# Altium footprint library JDY_pcb_lib.PcbLib: 10 footprints
Each footprint in its own frame and in the unit in brackets; x right, y up, seen from the top. Pads: shape width x height; smd on the part's side, far side on the other; paste and mask are expansions set on the pad; w line width, h text height; cw(c..) or ccw(c..) is an arc to the next point about the centre after c.
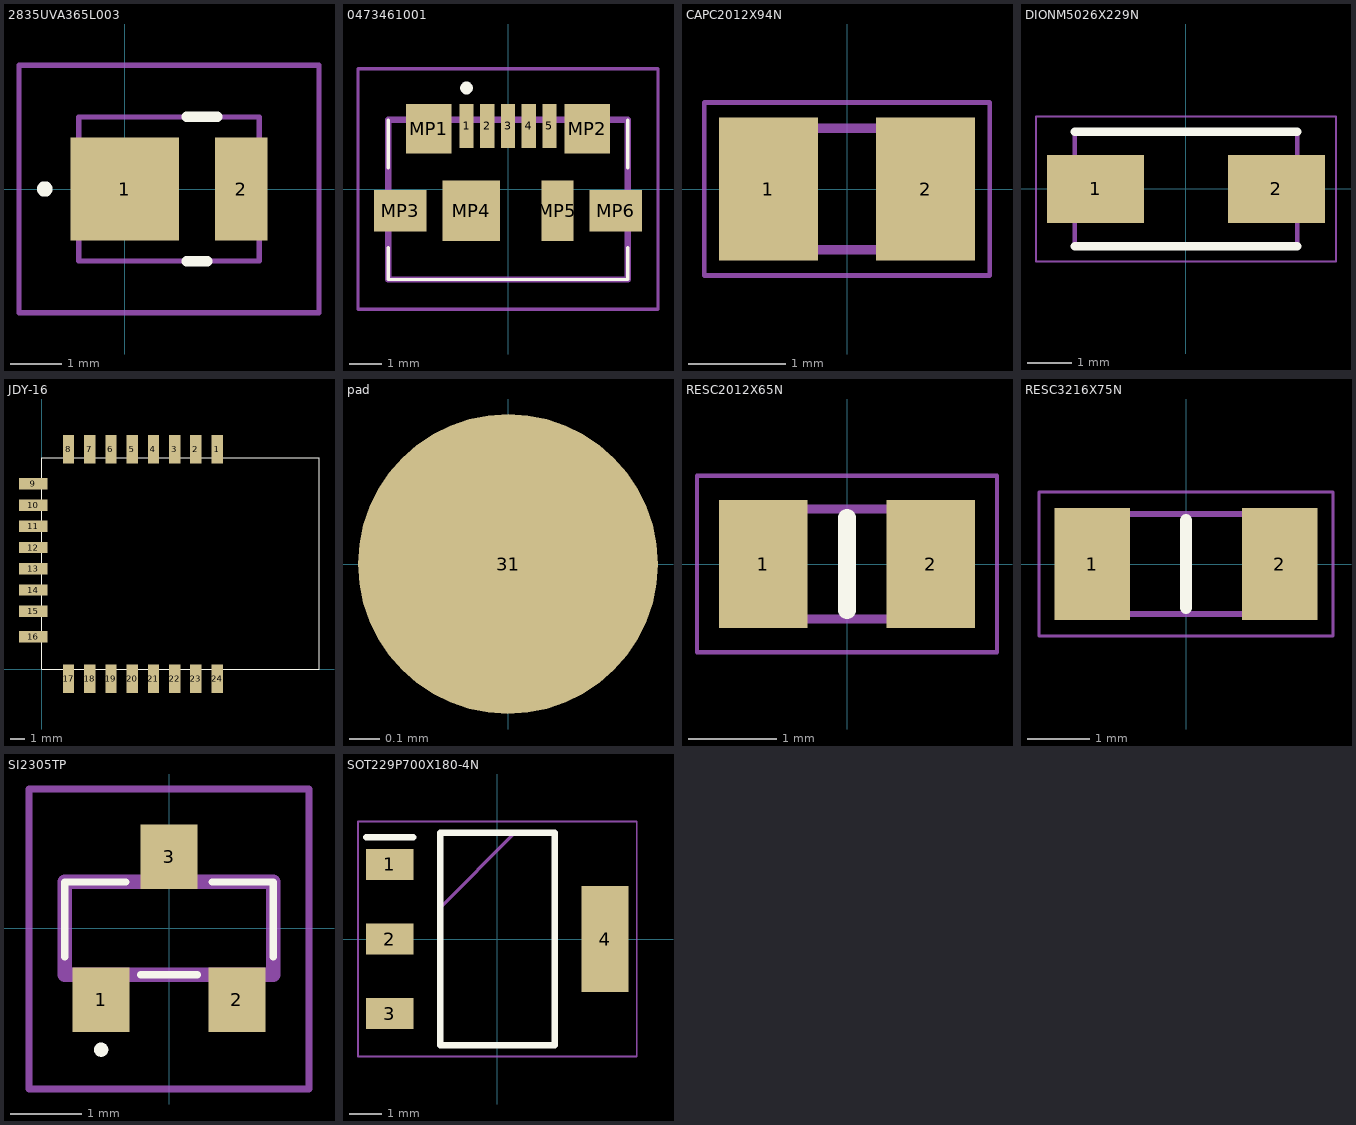
[diagram p0: the footprints below, top view; thin cyan lines are the x and y axes]

## 2835UVA365L003 [mm]
pads (2):
  rect 2.1x2 smd: 1(0,0)
  rect 1.02x2 smd: 2(2.26,0)
Top Overlay:
  lines w0.2: -1.6,0 ccw(c-1.55,0) -1.5,0 ; -1.6,0 cw(c-1.55,0) -1.5,0 ; -1.6,0 ccw(c-1.55,0) -1.5,0 ; 1.2,-1.4 1.6,-1.4 1.2,-1.4 ; 1.2,1.4 1.8,1.4 1.2,1.4
Mechanical 13:
  lines w0.1: -0.89,-1.4 2.61,-1.4 2.61,1.4 -0.89,1.4 -0.89,-1.4
Mechanical 15:
  lines w0.1: -2.05,-2.4 3.77,-2.4 3.77,2.4 -2.05,2.4 -2.05,-2.4
3D body "2835UVA365L-003.stp": height 1.85, standoff 0, extent -0.89,-1.4 2.61,1.4

## 0473461001 [mm]
pads (11):
  rect 0.45x1.38 smd: 1(-1.3,1.975) 2(-0.65,1.975) 3(0,1.975) 4(0.65,1.975) 5(1.3,1.975)
  rect 1.425x1.55 smd: MP1(-2.487,1.89) MP2(2.487,1.89)
  rect 1.65x1.3 smd: MP3(-3.375,-0.685) MP6(3.375,-0.685)
  rect 1.8x1.9 smd: MP4(-1.15,-0.685)
  rect 1x1.9 smd: MP5(1.55,-0.685)
Top Overlay:
  lines w0.1: -3.75,-1.835 -3.75,-2.835 3.75,-2.835 3.75,-1.835 ; -3.75,0.665 -3.75,2.165 ; 3.75,0.665 3.75,2.165
  lines w0.2: -1.4,3.165 cw(c-1.3,3.165) -1.2,3.165 cw(c-1.3,3.165) -1.4,3.165
Mechanical 13:
  lines w0.2: -3.75,-2.835 -3.75,2.165 3.75,2.165 3.75,-2.835 -3.75,-2.835
Mechanical 15:
  lines w0.1: -4.7,-3.765 -4.7,3.765 4.7,3.765 4.7,-3.765 -4.7,-3.765
3D body "0473461001.stp": height 2.72, standoff 0.01, extent -3.9,-2.5 3.9,2.5

## CAPC2012X94N [mm]
pads (2):
  rect 1.02x1.47 smd: 1(-0.81,0) 2(0.81,0)
Mechanical 13:
  lines w0.1: -1.005,-0.625 -1.005,0.625 1.005,0.625 1.005,-0.625 -1.005,-0.625
Mechanical 15:
  lines w0.05: -1.47,-0.89 -1.47,0.89 1.47,0.89 1.47,-0.89 -1.47,-0.89
3D body "08055A150JAT2A.stp": height 0.94, standoff 0, extent -1.005,-0.625 1.005,0.625

## DIONM5026X229N [mm]
pads (2):
  rect 2.2x1.55 smd: 1(-2.05,0) 2(2.05,0)
Top Overlay:
  lines w0.2: -2.52,-1.298 2.52,-1.298 ; -2.52,1.298 2.52,1.298
Mechanical 13:
  lines w0.1: -2.52,-1.298 2.52,-1.298 2.52,1.298 -2.52,1.298 -2.52,-1.298
Mechanical 15:
  lines w0.05: -3.4,-1.645 3.4,-1.645 3.4,1.645 -3.4,1.645 -3.4,-1.645
3D body "SMAJ400CA.stp": height 2.29, standoff 0, extent -2.52,-1.298 2.52,1.298

## JDY-16 [mm] "JDY16"
pads (24):
  rect 0.8x2 smd: 1(12.4,15.54) 2(10.9,15.54) 3(9.4,15.54) 4(7.9,15.54) 5(6.4,15.54) 6(4.9,15.54) 7(3.4,15.54) 8(1.9,15.54) 17(1.9,-0.66) 18(3.4,-0.66) 19(4.9,-0.66) 20(6.4,-0.66) 21(7.9,-0.66) 22(9.4,-0.66) 23(10.9,-0.66) 24(12.4,-0.66)
  rect 2x0.8 smd: 9(-0.6,13.1) 10(-0.6,11.6) 11(-0.6,10.1) 12(-0.6,8.6) 13(-0.6,7.1) 14(-0.6,5.6) 15(-0.6,4.1) 16(-0.6,2.3)
Top Overlay:
  lines w0.01: 0,0 19.6,0 19.6,14.94 0,14.94 0,0
3D body "JDY-08.stp": height 2.08, standoff 0, extent 0,-0.071 19.888,14.94

## pad [mm]
pads (1):
  round 1 smd: 31(0,0)

## RESC2012X65N [mm]
pads (2):
  rect 1x1.45 smd: 1(-0.95,0) 2(0.95,0)
Top Overlay:
  lines w0.2: 0,-0.525 0,0.525
Mechanical 13:
  lines w0.1: -1,-0.625 -1,0.625 1,0.625 1,-0.625 -1,-0.625
Mechanical 15:
  lines w0.05: -1.7,-1 -1.7,1 1.7,1 1.7,-1 -1.7,-1
3D body "CPF0805B100RE1.stp": height 0.65, standoff 0, extent -1,-0.625 1,0.625

## RESC3216X75N [mm]
pads (2):
  rect 1.2x1.8 smd: 1(-1.5,0) 2(1.5,0)
Top Overlay:
  lines w0.2: 0,-0.7 0,0.7
Mechanical 13:
  lines w0.1: -1.6,-0.8 -1.6,0.8 1.6,0.8 1.6,-0.8 -1.6,-0.8
Mechanical 15:
  lines w0.05: -2.35,-1.15 -2.35,1.15 2.35,1.15 2.35,-1.15 -2.35,-1.15
3D body "CR1206-F_-2R70ELF.stp": height 0.75, standoff 0, extent -1.6,-0.8 1.6,0.8

## SI2305TP [mm]
pads (3):
  rect 0.8x0.9 smd: 1(-0.95,-1) 2(0.95,-1) 3(0,1)
Top Overlay:
  lines w0.1: -1.46,-0.4 -1.46,0.65 -0.6,0.65 ; -0.4,-0.65 0.4,-0.65 ; 0.6,0.65 1.46,0.65 1.46,-0.4 ; -1,-1.7 ccw(c-0.95,-1.7) -0.9,-1.7 ccw(c-0.95,-1.7) -1,-1.7
Mechanical 13:
  lines w0.2: -1.46,-0.65 -1.46,0.65 1.46,0.65 1.46,-0.65 -1.46,-0.65
Mechanical 15:
  lines w0.1: -1.96,-2.25 -1.96,1.95 1.96,1.95 1.96,-2.25 -1.96,-2.25
3D body "BC817-40-TP.stp": height 0.9, standoff 0, extent -1.4,-1.05 1.4,1.05

## SOT229P700X180-4N [mm]
pads (4):
  rect 1.45x0.95 smd: 1(-3.3,2.29) 2(-3.3,0) 3(-3.3,-2.29)
  rect 1.45x3.25 smd: 4(3.3,0)
Top Overlay:
  lines w0.2: -4.025,3.115 -2.575,3.115 ; -1.752,-3.252 -1.752,3.252 1.752,3.252 1.752,-3.252 -1.752,-3.252
Mechanical 13:
  lines w0.1: -1.752,0.962 0.538,3.252 ; -1.752,-3.252 -1.752,3.252 1.752,3.252 1.752,-3.252 -1.752,-3.252
Mechanical 15:
  lines w0.05: -4.275,-3.605 -4.275,3.605 4.275,3.605 4.275,-3.605 -4.275,-3.605
3D body "AMS1117-3.3.stp": height 1.8, standoff 0, extent -3.355,-3.15 3.355,3.15